# Altium footprint library Button_Switch_SMD.PcbLib: 10 footprints
Each footprint in its own frame and in the unit in brackets; x right, y up, seen from the top. Pads: shape width x height; smd on the part's side, far side on the other; paste and mask are expansions set on the pad; w line width, h text height; cw(c..) or ccw(c..) is an arc to the next point about the centre after c.
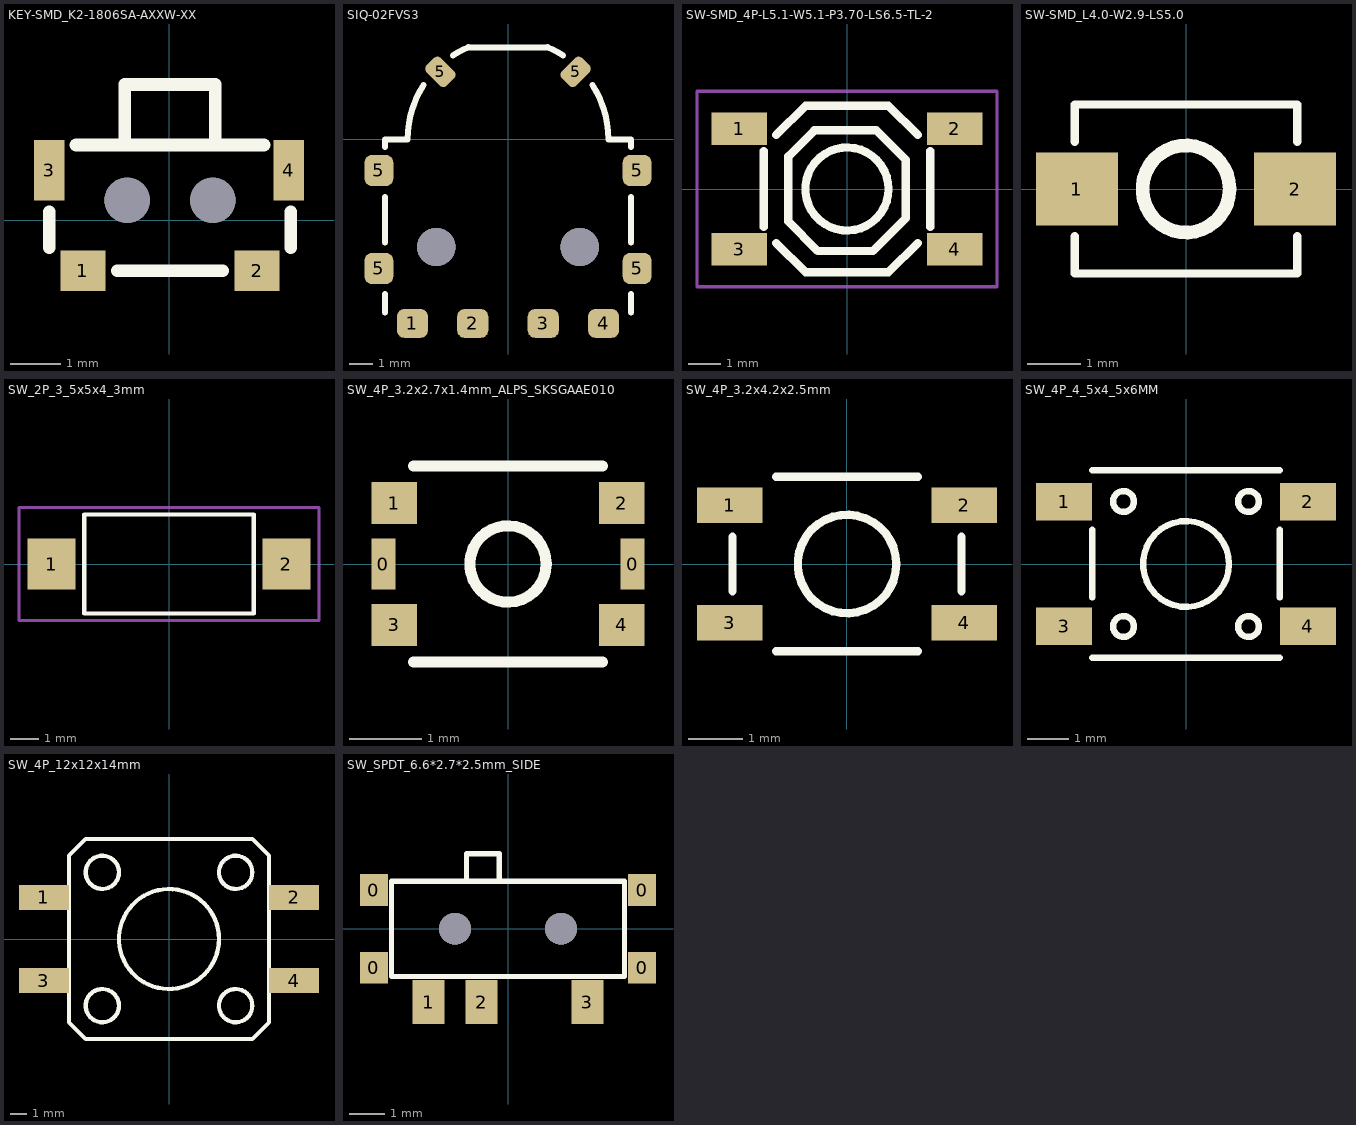
[diagram p0: the footprints below, top view; thin cyan lines are the x and y axes]

## KEY-SMD_K2-1806SA-AXXW-XX [mm]
pads (6):
  rect 0.9x0.8 smd: 1(-1.71,-1) 2(1.75,-1)
  rect 0.6x1.2 smd: 3(-2.38,1) 4(2.38,1)
  round 0.9 hole 0.9 unplated: ""(-0.831,0.4) ""(0.871,0.4)
Top Overlay:
  lines w0.254: -2.38,-0.535 -2.38,0.169 ; -1.029,-1.001 1.069,-1.001 ; 1.889,1.5 0.92,1.5 ; 2.42,-0.535 2.42,0.169 ; -0.88,1.5 0.92,1.5 ; -0.88,1.5 -1.849,1.5 -0.88,1.5 ; -0.88,1.5 -0.88,2.7 0.92,2.7 0.92,1.5
3D body "switch_side.stp": height 1.8, standoff -0.5, extent -2.4,-1.075 2.4,2.625

## SIQ-02FVS3 [mm]
height 4.3
pads (10):
  rrect50% 1.3x1.2 smd: 1(-4,-7.7) 2(-1.475,-7.7) 3(1.475,-7.7) 4(4,-7.7)
  rrect50% 1.2x1.3 smd: 5(-5.4,-5.4) 5(-5.4,-1.3) 5(5.4,-5.4) 5(5.4,-1.3)
  rrect50% 0.85x1.2 smd rot 45: 5(-2.828,2.828)
  rrect50% 0.85x1.2 smd rot 135: 5(2.828,2.828)
via -3,-4.5 diameter 1.6 hole 1.6
via 3,-4.5 diameter 1.6 hole 1.6
Top Overlay:
  lines w0.254: -5.15,-7.25 -5.15,-6.477 ; -5.15,-4.318 -5.15,-2.402 ; -5.15,-0.324 -5.15,0 -4.2,0 cw(c0,0) -3.533,2.271 ; -2.298,3.515 cw(c0,0) -1.655,3.86 ; -1.655,3.85 1.655,3.85 ; 1.655,3.86 cw(c0,0) 2.298,3.515 ; 3.533,2.271 cw(c0,0) 4.2,0 5.15,0 5.15,-0.324 ; 5.15,-7.25 5.15,-6.477 ; 5.15,-4.318 5.15,-2.402
3D body "RE.step": height 4.06, standoff -0.44, extent -7.199,-7.5 7.199,7.25

## SW-SMD_4P-L5.1-W5.1-P3.70-LS6.5-TL-2 [mm]
pads (4):
  rect 1.7x1 smd: 1(-3.3,1.849) 2(3.3,1.85) 3(-3.3,-1.85) 4(3.3,-1.85)
Top Overlay:
  circle w0.254: c0,0 r1.275
  lines w0.254: -2.55,-1.168 -2.55,1.168 ; -2.17,-1.655 -1.275,-2.55 1.275,-2.55 2.17,-1.655 ; -2.17,1.655 -1.275,2.55 1.275,2.55 2.17,1.655 ; 2.55,-1.168 2.55,1.168 ; -1.801,-0.998 -1.801,1.001 -1.001,1.801 0.899,1.801 1.801,0.899 1.801,-0.899 0.8,-1.9 -0.899,-1.9 -1.801,-0.998
Mechanical 15:
  lines w0.102: -4.6,-3 -4.6,3 4.6,3 4.6,-3 -4.6,-3
3D body "SW1.stp": height 1.55, standoff 0, extent -3.2,-2.6 3.2,2.6

## SW-SMD_L4.0-W2.9-LS5.0 [mm]
pads (2):
  rect 1.53x1.36 smd: 1(-2.035,0) 2(2.035,0)
Top Overlay:
  circle w0.254: c0,0 r0.813
  lines w0.152: -2.076,-0.883 -2.076,-1.576 2.076,-1.576 2.076,-0.883 ; -2.076,0.883 -2.076,1.576 2.076,1.576 2.076,0.883
3D body "sw3x4.stp": height 2.05, standoff 0.04, extent -2.5,-1.45 2.5,1.45

## SW_2P_3_5x5x4_3mm [mm]
height 4.3
pads (2):
  rect 1.7x1.8 smd: 1(-4.15,0) 2(4.15,0)
Top Overlay:
  lines w0.152: -3,-1.75 -3,1.75 3,1.75 3,-1.75 -3,-1.75
Mechanical 15:
  lines w0.102: -5.3,-2 5.3,-2 5.3,2 -5.3,2 -5.3,-2
3D body "User Library-DTSMF-31.STEP": height 4.35, standoff 0, extent -5,-1.75 5,1.75

## SW_4P_3.2x2.7x1.4mm_ALPS_SKSGAAE010 [mm]
pads (6):
  rect 0.325x0.7 smd: 0(-1.713,0) 0(1.712,0)
  rect 0.625x0.575 smd: 1(-1.562,0.837) 2(1.562,0.837) 3(-1.562,-0.837) 4(1.562,-0.837)
Top Overlay:
  circle w0.152: c0,0 r0.526
  lines w0.152: -1.3,-1.35 1.3,-1.35 ; -1.3,1.35 1.3,1.35
3D body "User Library-SKSGAAE010 3_2x2_7x1_4.STEP": height 1.6, standoff 0, extent -1.75,-1.35 1.75,1.35

## SW_4P_3.2x4.2x2.5mm [mm]
pads (4):
  rect 1.2x0.65 smd: 1(-2.15,1.075) 2(2.15,1.075) 3(-2.15,-1.075) 4(2.15,-1.075)
Top Overlay:
  circle w0.152: c0,0 r0.903
  lines w0.152: -2.1,-0.5 -2.1,0.5 ; -1.3,-1.6 1.3,-1.6 ; -1.3,1.6 1.3,1.6 ; 2.1,-0.5 2.1,0.5

## SW_4P_4_5x4_5x6MM [mm]
pads (4):
  rect 1.35x0.9 smd: 1(-2.925,1.5) 2(2.925,1.5) 3(-2.925,-1.5) 4(2.925,-1.5)
Top Overlay:
  circle w0.152: c0,0 r1.031
  circle w0.152: c1.5,1.5 r0.25
  circle w0.152: c-1.5,1.5 r0.25
  circle w0.152: c1.5,-1.5 r0.25
  circle w0.152: c-1.5,-1.5 r0.25
  lines w0.152: -2.25,-2.25 2.25,-2.25 ; -2.25,-0.804 -2.25,0.825 ; -2.25,2.25 2.25,2.25 ; 2.25,-0.804 2.25,0.825
3D body "btn_4.5.stp": height 6, standoff 0, extent -3.25,-2.25 3.25,2.25

## SW_4P_12x12x14mm [mm]
pads (4):
  rect 3x1.5 smd: 1(-7.5,2.5) 2(7.5,2.5) 3(-7.5,-2.5) 4(7.5,-2.5)
Top Overlay:
  circle w0.254: c-4,4 r1
  circle w0.254: c-4,-4 r1
  circle w0.254: c4,-4 r1
  circle w0.254: c4,4 r1
  circle w0.254: c0,0 r3
  lines w0.254: -6,-5 -6,5 -5,6 4,6 5,6 6,5 6,-5 5,-6 -5,-6 -6,-5
3D body: height 14, standoff 0, extent -2.54,-2.537 2.54,2.537
3D body: height 3.3, standoff 0, extent -6,-6 6,6

## SW_SPDT_6.6*2.7*2.5mm_SIDE [mm]
pads (7):
  rect 0.8x0.9 smd: 0(-3.8,-1.1) 0(-3.8,1.1) 0(3.8,-1.1) 0(3.8,1.1)
  rect 0.9x1.25 smd: 1(-2.25,-2.075) 2(-0.75,-2.075) 3(2.25,-2.075)
via 1.5,0 diameter 0.9 hole 0.9
via -1.5,0 diameter 0.9 hole 0.9
Top Overlay:
  lines w0.152: -1.175,1.35 -1.175,2.125 -0.25,2.125 -0.25,1.35 ; -3.3,-1.35 3.3,-1.35 3.3,1.35 -3.3,1.35 -3.3,-1.35